# Altium schematic symbol library ARCOM_FPGA.SchLib: 8 symbols (part 3 of 3)
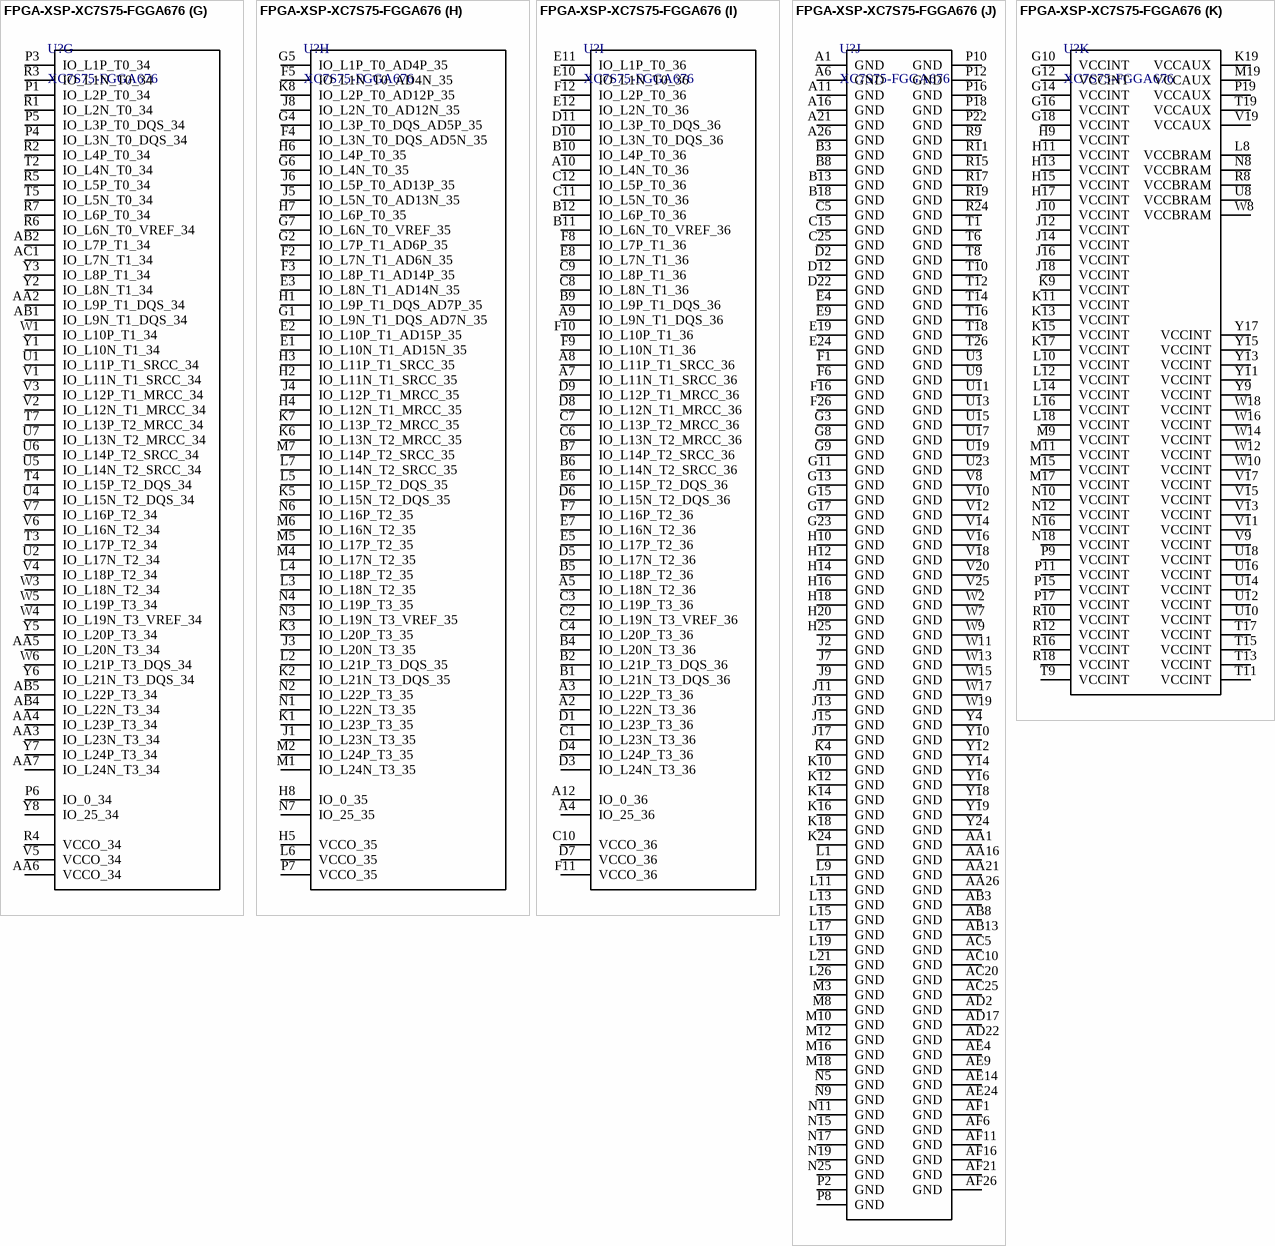
[diagram p11: symbol FPGA-XSP-XC7S75-FGGA676]

## FPGA-XSP-XC7S75-FGGA676
designator U?, comment XC7S75-FGGA676
Spartan-7, 400 User I/Os, 676-Ball Fine-Pitch BGA, Pb-Free; Manufacturer: AMD (Xilinx); Family: Chip; Manufacturer P/N: XC7S75-FGGA676; Part: XC7S75-FGGA676; ComponentLink1Description: Manufacturer; ComponentLink1URL: *; ComponentLink2Description: Datasheet; ComponentLink2URL: *; ComponentLink3Description: Pin-out table; ComponentLink3URL: *
footprint FGG676 (BGA, 676-Leads, Body 27x27mm, Pitch 1mm)
part A pins: AA12 TDO_0, AA13 TMS_0, AA14 INIT_B_0, AA15 M2_0, AB12 TDI_0, AB14 CFGBVS_0, AB15 M1_0, AB16 M0_0, AC13 PROGRAM_B_0, AC14 DONE_0, AC15 VCCO_0, D13 VCCBATT_0, E13 TCK_0, E14 VCCO_0, F13 CCLK_0, M13 VCCADC_0, M14 GNDADC_0, N13 VREFN_0, N14 VP_0, P13 VN_0, P14 VREFP_0, R13 DXN_0, R14 DXP_0
part B pins: AA17 IO_L22P_T3_13, AA18 IO_L22N_T3_13, AA19 IO_L13P_T2_MRCC_13, AA20 IO_L9P_T1_DQS_13, AB17 IO_L19P_T3_13, AB18 VCCO_13, AB19 IO_L13N_T2_MRCC_13, AB20 IO_L9N_T1_DQS_13, AB21 IO_L11P_T1_SRCC_13, AB22 IO_L10P_T1_13, AB23 VCCO_13, AB24 IO_L2P_T0_13, AB25 IO_L2N_T0_13, AB26 IO_L1P_T0_13, AC16 IO_L21P_T3_DQS_13, AC17 IO_L19N_T3_VREF_13, AC18 IO_L18P_T2_13, AC19 IO_L16P_T2_13, AC21 IO_L11N_T1_SRCC_13, AC22 IO_L10N_T1_13, AC23 IO_L5P_T0_13, AC24 IO_L5N_T0_13, AC26 IO_L1N_T0_13, AD15 IO_L23P_T3_13, AD16 IO_L21N_T3_DQS_13, AD18 IO_L18N_T2_13, AD19 IO_L16N_T2_13, AD20 IO_L17P_T2_13, AD21 IO_L12P_T1_MRCC_13, AD23 IO_L7P_T1_13, AD24 IO_L4P_T0_13, AD25 IO_L4N_T0_13, AD26 IO_L3P_T0_DQS_13, AE15 IO_L24P_T3_13, AE16 IO_L23N_T3_13, AE17 IO_25_13, AE18 IO_L15P_T2_DQS_13, AE19 VCCO_13, AE20 IO_L14P_T2_SRCC_13, AE21 IO_L17N_T2_13, AE22 IO_L12N_T1_MRCC_13, AE23 IO_L7N_T1_13, AE25 IO_L6P_T0_13, AE26 IO_L3N_T0_DQS_13, AF15 IO_L24N_T3_13, AF17 IO_L20P_T3_13, AF18 IO_L20N_T3_13, AF19 IO_L15N_T2_DQS_13, AF20 IO_L14N_T2_SRCC_13, AF22 IO_L8P_T1_13, AF23 IO_L8N_T1_13, AF24 IO_0_13, AF25 IO_L6N_T0_VREF_13
part C pins: AA22 IO_L23P_T3_D19_14, AA23 IO_L23N_T3_D18_14, AA24 IO_L22P_T3_D21_14, AA25 IO_L22N_T3_D20_14, M26 IO_0_14, N20 VCCO_14, N21 IO_L3P_T0_DQS_PUDC_B_14, N22 IO_L3N_T0_DQS_EMCCLK_14, N23 IO_L1P_T0_D00_MOSI_14, N24 IO_L1N_T0_D01_DIN_14, N26 IO_L7P_T1_D09_14, P20 IO_L5P_T0_D06_14, P21 IO_L5N_T0_D07_14, P23 IO_L2P_T0_D02_14, P24 IO_L8P_T1_D11_14, P25 IO_L9P_T1_DQS_14, P26 IO_L7N_T1_D10_14, R20 IO_L6P_T0_FCS_B_14, R21 IO_L4P_T0_D04_14, R22 IO_L4N_T0_D05_14, R23 IO_L2N_T0_D03_14, R25 IO_L8N_T1_D12_14, R26 IO_L9N_T1_DQS_D13_14, T20 IO_L6N_T0_D08_VREF_14, T21 VCCO_14, T22 IO_L14P_T2_SRCC_14, T23 IO_L12P_T1_MRCC_14, T24 IO_L12N_T1_MRCC_14, T25 IO_L10P_T1_D14_14, U20 IO_L13P_T2_MRCC_14, U21 IO_L13N_T2_MRCC_14, U22 IO_L14N_T2_SRCC_14, U24 IO_L15P_T2_DQS_RDWR_B_14, U25 IO_L11P_T1_SRCC_14, U26 IO_L10N_T1_D15_14, V21 IO_L17P_T2_D30_14, V22 IO_L17N_T2_D29_14, V23 IO_L18P_T2_D28_14, V24 IO_L15N_T2_DQS_DOUT_CSO_B_14, V26 IO_L11N_T1_SRCC_14, W20 IO_L16P_T2_CSI_B_14, W21 IO_L16N_T2_D31_14, W22 VCCO_14, W23 IO_L21P_T3_DQS_14, W24 IO_L18N_T2_D27_14, W25 IO_L19P_T3_D26_14, W26 IO_L19N_T3_D25_VREF_14, Y20 IO_25_14, Y21 IO_L24P_T3_D17_14, Y22 IO_L24N_T3_D16_14, Y23 IO_L21N_T3_DQS_D22_14, Y25 IO_L20P_T3_D24_14, Y26 IO_L20N_T3_D23_14
part D pins: B25 IO_L9P_T1_DQS_AD3P_15, B26 IO_L9N_T1_DQS_AD3N_15, C26 IO_L12N_T1_MRCC_15, D23 IO_L8N_T1_AD10N_15, D24 IO_L7P_T1_AD2P_15, D25 IO_L7N_T1_AD2N_15, D26 IO_L12P_T1_MRCC_15, E22 IO_L8P_T1_AD10P_15, E23 IO_L10N_T1_AD11N_15, E25 IO_L11P_T1_SRCC_15, E26 IO_L11N_T1_SRCC_15, F21 VCCO_15, F22 IO_L13N_T2_MRCC_15, F23 IO_L10P_T1_AD11P_15, F24 IO_L17P_T2_15, F25 IO_L17N_T2_15, G20 IO_L4P_T0_15, G21 IO_L4N_T0_15, G22 IO_L13P_T2_MRCC_15, G24 IO_L15N_T2_DQS_15, G25 IO_L18P_T2_15, G26 IO_L18N_T2_15, H19 IO_L2N_T0_AD8N_15, H21 IO_L1N_T0_AD0N_15, H22 IO_25_15, H23 IO_L14N_T2_SRCC_15, H24 IO_L15P_T2_DQS_15, H26 IO_L16N_T2_15, J19 IO_L2P_T0_AD8P_15, J20 IO_L1P_T0_AD0P_15, J21 IO_0_15, J22 VCCO_15, J23 IO_L14P_T2_SRCC_15, J24 IO_L21P_T3_DQS_15, J25 IO_L21N_T3_DQS_15, J26 IO_L16P_T2_15, K20 IO_L5N_T0_AD9N_15, K21 IO_L3P_T0_DQS_AD1P_15, K22 IO_L3N_T0_DQS_AD1N_15, K23 IO_L20N_T3_15, K25 IO_L23P_T3_15, K26 IO_L23N_T3_15, L20 IO_L5P_T0_AD9P_15, L22 IO_L20P_T3_15, L23 IO_L19N_T3_VREF_15, L24 IO_L22N_T3_15, L25 IO_L24N_T3_RS0_15, M20 IO_L6P_T0_15, M21 IO_L6N_T0_VREF_15, M22 IO_L19P_T3_15, M23 VCCO_15, M24 IO_L22P_T3_15, M25 IO_L24P_T3_RS1_15
part E pins: A13 IO_0_16, A14 IO_L3P_T0_DQS_16, A15 IO_L3N_T0_DQS_16, A17 IO_L11P_T1_SRCC_16, A18 IO_L11N_T1_SRCC_16, A19 IO_L18P_T2_16, A20 IO_L18N_T2_16, A22 IO_L20P_T3_16, A23 IO_L20N_T3_16, A24 IO_L21P_T3_DQS_16, A25 IO_L21N_T3_DQS_16, B14 IO_L4P_T0_16, B15 IO_L4N_T0_16, B16 IO_L9P_T1_DQS_16, B17 IO_L9N_T1_DQS_16, B19 IO_L17P_T2_16, B20 IO_L17N_T2_16, B21 IO_L22P_T3_16, B22 IO_L22N_T3_16, B23 VCCO_16, B24 IO_L23N_T3_16, C13 IO_L6P_T0_16, C14 IO_L6N_T0_VREF_16, C16 IO_L8N_T1_16, C17 IO_L7P_T1_16, C18 IO_L7N_T1_16, C19 IO_L13N_T2_MRCC_16, C20 VCCO_16, C21 IO_L19N_T3_VREF_16, C22 IO_L24P_T3_16, C23 IO_L24N_T3_16, C24 IO_L23P_T3_16, D14 IO_L5P_T0_16, D15 IO_L5N_T0_16, D16 IO_L8P_T1_16, D17 VCCO_16, D18 IO_L13P_T2_MRCC_16, D19 IO_L16P_T2_16, D20 IO_L16N_T2_16, D21 IO_L19P_T3_16, E15 IO_L2P_T0_16, E16 IO_L2N_T0_16, E17 IO_L10P_T1_16, E18 IO_L10N_T1_16, E20 IO_L14P_T2_SRCC_16, E21 IO_L14N_T2_SRCC_16, F14 IO_L1P_T0_16, F15 IO_L1N_T0_16, F17 IO_L12P_T1_MRCC_16, F18 IO_L12N_T1_MRCC_16, F19 IO_L15P_T2_DQS_16, F20 IO_L15N_T2_DQS_16, G19 IO_25_16
part F pins: AA8 IO_L9P_T1_DQS_33, AA9 IO_L18P_T2_33, AA10 IO_L13P_T2_MRCC_33, AA11 VCCO_33, AB6 IO_L10P_T1_33, AB7 IO_L9N_T1_DQS_33, AB9 IO_L18N_T2_33, AB10 IO_L13N_T2_MRCC_33, AB11 IO_L23P_T3_33, AC2 IO_L2N_T0_33, AC3 IO_L2P_T0_33, AC4 IO_L5P_T0_33, AC6 IO_L10N_T1_33, AC7 IO_L11N_T1_SRCC_33, AC8 IO_L11P_T1_SRCC_33, AC9 IO_L15P_T2_DQS_33, AC11 IO_L23N_T3_33, AC12 IO_L19P_T3_33, AD1 IO_L1P_T0_33, AD3 IO_L6P_T0_33, AD4 IO_L5N_T0_33, AD5 IO_L8N_T1_33, AD6 IO_L8P_T1_33, AD7 VCCO_33, AD8 IO_L15N_T2_DQS_33, AD9 IO_L16N_T2_33, AD10 IO_L16P_T2_33, AD11 IO_L19N_T3_VREF_33, AD12 VCCO_33, AD13 IO_L24N_T3_33, AD14 IO_L24P_T3_33, AE1 IO_L1N_T0_33, AE2 IO_0_33, AE3 IO_L6N_T0_VREF_33, AE5 IO_L7N_T1_33, AE6 IO_L7P_T1_33, AE7 IO_L12N_T1_MRCC_33, AE8 IO_L12P_T1_MRCC_33, AE10 IO_L21N_T3_DQS_33, AE11 IO_L21P_T3_DQS_33, AE12 IO_L20P_T3_33, AE13 IO_25_33, AF2 IO_L3N_T0_DQS_33, AF3 IO_L3P_T0_DQS_33, AF4 IO_L4N_T0_33, AF5 IO_L4P_T0_33, AF7 IO_L14N_T2_SRCC_33, AF8 IO_L14P_T2_SRCC_33, AF9 IO_L17N_T2_33, AF10 IO_L17P_T2_33, AF12 IO_L20N_T3_33, AF13 IO_L22N_T3_33, AF14 IO_L22P_T3_33
part G pins: AA2 IO_L9P_T1_DQS_34, AA3 IO_L23N_T3_34, AA4 IO_L23P_T3_34, AA5 IO_L20N_T3_34, AA6 VCCO_34, AA7 IO_L24N_T3_34, AB1 IO_L9N_T1_DQS_34, AB2 IO_L7P_T1_34, AB4 IO_L22N_T3_34, AB5 IO_L22P_T3_34, AC1 IO_L7N_T1_34, P1 IO_L2P_T0_34, P3 IO_L1P_T0_34, P4 IO_L3N_T0_DQS_34, P5 IO_L3P_T0_DQS_34, P6 IO_0_34, R1 IO_L2N_T0_34, R2 IO_L4P_T0_34, R3 IO_L1N_T0_34, R4 VCCO_34, R5 IO_L5P_T0_34, R6 IO_L6N_T0_VREF_34, R7 IO_L6P_T0_34, T2 IO_L4N_T0_34, T3 IO_L17P_T2_34, T4 IO_L15P_T2_DQS_34, T5 IO_L5N_T0_34, T7 IO_L13P_T2_MRCC_34, U1 IO_L11P_T1_SRCC_34, U2 IO_L17N_T2_34, U4 IO_L15N_T2_DQS_34, U5 IO_L14N_T2_SRCC_34, U6 IO_L14P_T2_SRCC_34, U7 IO_L13N_T2_MRCC_34, V1 IO_L11N_T1_SRCC_34, V2 IO_L12N_T1_MRCC_34, V3 IO_L12P_T1_MRCC_34, V4 IO_L18P_T2_34, V5 VCCO_34, V6 IO_L16N_T2_34, V7 IO_L16P_T2_34, W1 IO_L10P_T1_34, W3 IO_L18N_T2_34, W4 IO_L19N_T3_VREF_34, W5 IO_L19P_T3_34, W6 IO_L21P_T3_DQS_34, Y1 IO_L10N_T1_34, Y2 IO_L8N_T1_34, Y3 IO_L8P_T1_34, Y5 IO_L20P_T3_34, Y6 IO_L21N_T3_DQS_34, Y7 IO_L24P_T3_34, Y8 IO_25_34
part H pins: E1 IO_L10N_T1_AD15N_35, E2 IO_L10P_T1_AD15P_35, E3 IO_L8N_T1_AD14N_35, F2 IO_L7N_T1_AD6N_35, F3 IO_L8P_T1_AD14P_35, F4 IO_L3N_T0_DQS_AD5N_35, F5 IO_L1N_T0_AD4N_35, G1 IO_L9N_T1_DQS_AD7N_35, G2 IO_L7P_T1_AD6P_35, G4 IO_L3P_T0_DQS_AD5P_35, G5 IO_L1P_T0_AD4P_35, G6 IO_L4N_T0_35, G7 IO_L6N_T0_VREF_35, H1 IO_L9P_T1_DQS_AD7P_35, H2 IO_L11N_T1_SRCC_35, H3 IO_L11P_T1_SRCC_35, H4 IO_L12N_T1_MRCC_35, H5 VCCO_35, H6 IO_L4P_T0_35, H7 IO_L6P_T0_35, H8 IO_0_35, J1 IO_L23N_T3_35, J3 IO_L20N_T3_35, J4 IO_L12P_T1_MRCC_35, J5 IO_L5N_T0_AD13N_35, J6 IO_L5P_T0_AD13P_35, J8 IO_L2N_T0_AD12N_35, K1 IO_L23P_T3_35, K2 IO_L21N_T3_DQS_35, K3 IO_L20P_T3_35, K5 IO_L15N_T2_DQS_35, K6 IO_L13N_T2_MRCC_35, K7 IO_L13P_T2_MRCC_35, K8 IO_L2P_T0_AD12P_35, L2 IO_L21P_T3_DQS_35, L3 IO_L18N_T2_35, L4 IO_L18P_T2_35, L5 IO_L15P_T2_DQS_35, L6 VCCO_35, L7 IO_L14N_T2_SRCC_35, M1 IO_L24N_T3_35, M2 IO_L24P_T3_35, M4 IO_L17N_T2_35, M5 IO_L17P_T2_35, M6 IO_L16N_T2_35, M7 IO_L14P_T2_SRCC_35, N1 IO_L22N_T3_35, N2 IO_L22P_T3_35, N3 IO_L19N_T3_VREF_35, N4 IO_L19P_T3_35, N6 IO_L16P_T2_35, N7 IO_25_35, P7 VCCO_35
part I pins: A2 IO_L22N_T3_36, A3 IO_L22P_T3_36, A4 IO_25_36, A5 IO_L18N_T2_36, A7 IO_L11N_T1_SRCC_36, A8 IO_L11P_T1_SRCC_36, A9 IO_L9N_T1_DQS_36, A10 IO_L4N_T0_36, A12 IO_0_36, B1 IO_L21N_T3_DQS_36, B2 IO_L21P_T3_DQS_36, B4 IO_L20N_T3_36, B5 IO_L18P_T2_36, B6 IO_L14N_T2_SRCC_36, B7 IO_L14P_T2_SRCC_36, B9 IO_L9P_T1_DQS_36, B10 IO_L4P_T0_36, B11 IO_L6N_T0_VREF_36, B12 IO_L6P_T0_36, C1 IO_L23N_T3_36, C2 IO_L19N_T3_VREF_36, C3 IO_L19P_T3_36, C4 IO_L20P_T3_36, C6 IO_L13N_T2_MRCC_36, C7 IO_L13P_T2_MRCC_36, C8 IO_L8N_T1_36, C9 IO_L8P_T1_36, C10 VCCO_36, C11 IO_L5N_T0_36, C12 IO_L5P_T0_36, D1 IO_L23P_T3_36, D3 IO_L24N_T3_36, D4 IO_L24P_T3_36, D5 IO_L17N_T2_36, D6 IO_L15N_T2_DQS_36, D7 VCCO_36, D8 IO_L12N_T1_MRCC_36, D9 IO_L12P_T1_MRCC_36, D10 IO_L3N_T0_DQS_36, D11 IO_L3P_T0_DQS_36, E5 IO_L17P_T2_36, E6 IO_L15P_T2_DQS_36, E7 IO_L16N_T2_36, E8 IO_L7N_T1_36, E10 IO_L1N_T0_36, E11 IO_L1P_T0_36, E12 IO_L2N_T0_36, F7 IO_L16P_T2_36, F8 IO_L7P_T1_36, F9 IO_L10N_T1_36, F10 IO_L10P_T1_36, F11 VCCO_36, F12 IO_L2P_T0_36
part J pins: A1 GND, A6 GND, A11 GND, A16 GND, A21 GND, A26 GND, AA1 GND, AA16 GND, AA21 GND, AA26 GND, AB3 GND, AB8 GND, AB13 GND, AC5 GND, AC10 GND, AC20 GND, AC25 GND, AD2 GND, AD17 GND, AD22 GND, AE4 GND, AE9 GND, AE14 GND, AE24 GND, AF1 GND, AF6 GND, AF11 GND, AF16 GND, AF21 GND, AF26 GND, B3 GND, B8 GND, B13 GND, B18 GND, C5 GND, C15 GND, C25 GND, D2 GND, D12 GND, D22 GND, E4 GND, E9 GND, E19 GND, E24 GND, F1 GND, F6 GND, F16 GND, F26 GND, G3 GND, G8 GND, G9 GND, G11 GND, G13 GND, G15 GND, G17 GND, G23 GND, H10 GND, H12 GND, H14 GND, H16 GND, H18 GND, H20 GND, H25 GND, J2 GND, J7 GND, J9 GND, J11 GND, J13 GND, J15 GND, J17 GND, K4 GND, K10 GND, K12 GND, K14 GND, K16 GND, K18 GND, K24 GND, L1 GND, L9 GND, L11 GND, L13 GND, L15 GND, L17 GND, L19 GND, L21 GND, L26 GND, M3 GND, M8 GND, M10 GND, M12 GND, M16 GND, M18 GND, N5 GND, N9 GND, N11 GND, N15 GND, N17 GND, N19 GND, N25 GND, P2 GND, P8 GND, P10 GND, P12 GND, P16 GND, P18 GND, P22 GND, R9 GND, R11 GND, R15 GND, R17 GND, R19 GND, R24 GND, T1 GND, T6 GND, T8 GND, T10 GND, T12 GND, T14 GND, T16 GND, T18 GND, T26 GND, U3 GND, U9 GND, U11 GND, U13 GND, U15 GND, U17 GND, U19 GND, U23 GND, V8 GND, V10 GND, V12 GND, V14 GND, V16 GND, V18 GND, V20 GND, V25 GND, W2 GND, W7 GND, W9 GND, W11 GND, W13 GND, W15 GND, W17 GND, W19 GND, Y4 GND, Y10 GND, Y12 GND, Y14 GND, Y16 GND, Y18 GND, Y19 GND, Y24 GND
part K pins: G10 VCCINT, G12 VCCINT, G14 VCCINT, G16 VCCINT, G18 VCCINT, H9 VCCINT, H11 VCCINT, H13 VCCINT, H15 VCCINT, H17 VCCINT, J10 VCCINT, J12 VCCINT, J14 VCCINT, J16 VCCINT, J18 VCCINT, K9 VCCINT, K11 VCCINT, K13 VCCINT, K15 VCCINT, K17 VCCINT, K19 VCCAUX, L8 VCCBRAM, L10 VCCINT, L12 VCCINT, L14 VCCINT, L16 VCCINT, L18 VCCINT, M9 VCCINT, M11 VCCINT, M15 VCCINT, M17 VCCINT, M19 VCCAUX, N8 VCCBRAM, N10 VCCINT, N12 VCCINT, N16 VCCINT, N18 VCCINT, P9 VCCINT, P11 VCCINT, P15 VCCINT, P17 VCCINT, P19 VCCAUX, R8 VCCBRAM, R10 VCCINT, R12 VCCINT, R16 VCCINT, R18 VCCINT, T9 VCCINT, T11 VCCINT, T13 VCCINT, T15 VCCINT, T17 VCCINT, T19 VCCAUX, U8 VCCBRAM, U10 VCCINT, U12 VCCINT, U14 VCCINT, U16 VCCINT, U18 VCCINT, V9 VCCINT, V11 VCCINT, V13 VCCINT, V15 VCCINT, V17 VCCINT, V19 VCCAUX, W8 VCCBRAM, W10 VCCINT, W12 VCCINT, W14 VCCINT, W16 VCCINT, W18 VCCINT, Y9 VCCINT, Y11 VCCINT, Y13 VCCINT, Y15 VCCINT, Y17 VCCINT